# Altium integrated library Lattice MachXO.IntLib: 790 symbols (part 46 of 50)
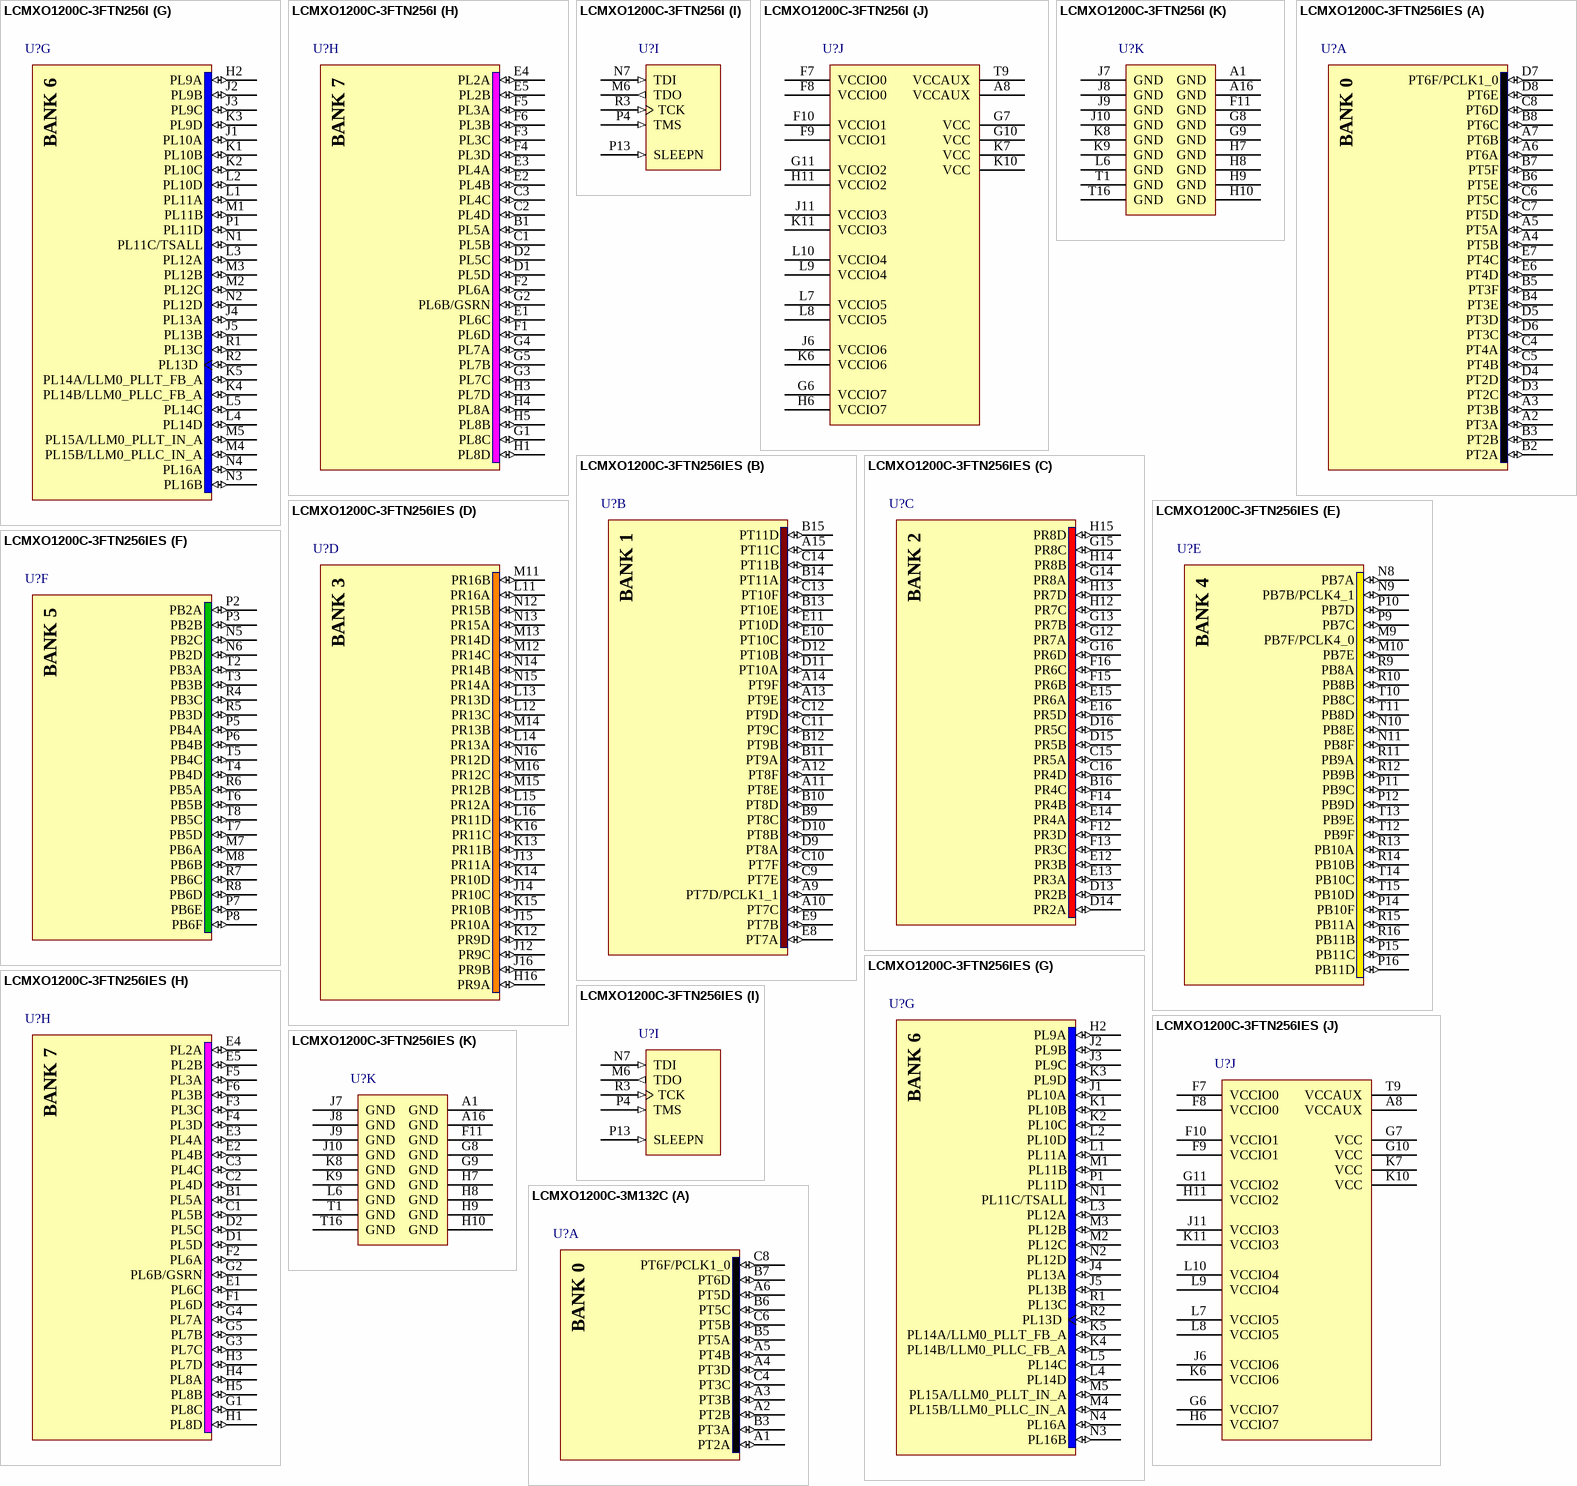
[diagram p485: symbols LCMXO1200C-3FTN256I to LCMXO1200C-3M132C]

## LCMXO1200C-3FTN256IES
designator U?
MachXO 1200 Crossover PLD, 1.8V/2.5V/3.3V, 211 User I/Os, 256-Pins ftBGA, Speed Grade-3, Industrial Grade, Pb-Free, Engineering Sample; Published: 31-Jul-2006; DatasheetVersion: ver2.1, May-2006; PackageVersion: pkg_33, Apr-2006; PackageReference: ftBGA256; Publisher: Altium Limited; PackageDescription: 256-Ball Fine Thin Ball Grid Array (ftBGA256); ComponentLink1Description: Manufacturer Link; ComponentLink1URL: http://www.latticesemi.com/products/cpld/machXO/index.cfm; ComponentLink2Description: Datasheet; ComponentLink2URL: http://www.latticesemi.com/lit/docs/datasheets/cpld/machxo.pdf
footprint ftBGA256 (BGA, 256-Leads, Body 17x17mm, Pitch 1mm)
3D model MachXO1200-ftBGA256 (256-Ball Fine Thin Ball Grid Array (ftBGA256))
signal-integrity model LCMXO1200C_FT256 (MachXO)
part A pins: A2 PT3A (io), A3 PT3B (io), A4 PT5B (io), A5 PT5A (io), A6 PT6A (io), A7 PT6B (io), B2 PT2A (io), B3 PT2B (io), B4 PT3E (io), B5 PT3F (io), B6 PT5E (io), B7 PT5F (io), B8 PT6C (io), C4 PT4A (io), C5 PT4B (io), C6 PT5C (io), C7 PT5D (io), C8 PT6D (io), D3 PT2C (io), D4 PT2D (io), D5 PT3D (io), D6 PT3C (io), D7 PT6F/PCLK1_0 (io), D8 PT6E (io), E6 PT4D (io), E7 PT4C (io)
part B pins: A9 PT7D/PCLK1_1 (io), A10 PT7C (io), A11 PT8E (io), A12 PT8F (io), A13 PT9E (io), A14 PT9F (io), A15 PT11C (io), B9 PT8C (io), B10 PT8D (io), B11 PT9A (io), B12 PT9B (io), B13 PT10E (io), B14 PT11A (io), B15 PT11D (io), C9 PT7E (io), C10 PT7F (io), C11 PT9C (io), C12 PT9D (io), C13 PT10F (io), C14 PT11B (io), D9 PT8A (io), D10 PT8B (io), D11 PT10A (io), D12 PT10B (io), E8 PT7A (io), E9 PT7B (io), E10 PT10C (io), E11 PT10D (io)
part C pins: B16 PR4C (io), C15 PR5A (io), C16 PR4D (io), D13 PR2B (io), D14 PR2A (io), D15 PR5B (io), D16 PR5C (io), E12 PR3B (io), E13 PR3A (io), E14 PR4A (io), E15 PR6A (io), E16 PR5D (io), F12 PR3D (io), F13 PR3C (io), F14 PR4B (io), F15 PR6B (io), F16 PR6C (io), G12 PR7A (io), G13 PR7B (io), G14 PR8A (io), G15 PR8C (io), G16 PR6D (io), H12 PR7C (io), H13 PR7D (io), H14 PR8B (io), H15 PR8D (io)
part D pins: H16 PR9A (io), J12 PR9C (io), J13 PR11A (io), J14 PR10C (io), J15 PR10A (io), J16 PR9B (io), K12 PR9D (io), K13 PR11B (io), K14 PR10D (io), K15 PR10B (io), K16 PR11C (io), L11 PR16A (io), L12 PR13C (io), L13 PR13D (io), L14 PR13A (io), L15 PR12A (io), L16 PR11D (io), M11 PR16B (io), M12 PR14C (io), M13 PR14D (io), M14 PR13B (io), M15 PR12B (io), M16 PR12C (io), N12 PR15B (io), N13 PR15A (io), N14 PR14B (io), N15 PR14A (io), N16 PR12D (io)
part E pins: M9 PB7F/PCLK4_0 (io), M10 PB7E (io), N8 PB7A (io), N9 PB7B/PCLK4_1 (io), N10 PB8E (io), N11 PB8F (io), P9 PB7C (io), P10 PB7D (io), P11 PB9C (io), P12 PB9D (io), P14 PB10F (io), P15 PB11C (io), P16 PB11D (io), R9 PB8A (io), R10 PB8B (io), R11 PB9A (io), R12 PB9B (io), R13 PB10A (io), R14 PB10B (io), R15 PB11A (io), R16 PB11B (io), T10 PB8C (io), T11 PB8D (io), T12 PB9F (io), T13 PB9E (io), T14 PB10C (io), T15 PB10D (io)
part F pins: M7 PB6A (io), M8 PB6B (io), N5 PB2C (io), N6 PB2D (io), P2 PB2A (io), P3 PB2B (io), P5 PB4A (io), P6 PB4B (io), P7 PB6E (io), P8 PB6F (io), R4 PB3C (io), R5 PB3D (io), R6 PB5A (io), R7 PB6C (io), R8 PB6D (io), T2 PB3A (io), T3 PB3B (io), T4 PB4D (io), T5 PB4C (io), T6 PB5B (io), T7 PB5D (io), T8 PB5C (io)
part G pins: H2 PL9A (io), J1 PL10A (io), J2 PL9B (io), J3 PL9C (io), J4 PL13A (io), J5 PL13B (io), K1 PL10B (io), K2 PL10C (io), K3 PL9D (io), K4 PL14B/LLM0_PLLC_FB_A (io), K5 PL14A/LLM0_PLLT_FB_A (io), L1 PL11A (io), L2 PL10D (io), L3 PL12A (io), L4 PL14D (io), L5 PL14C (io), M1 PL11B (io), M2 PL12C (io), M3 PL12B (io), M4 PL15B/LLM0_PLLC_IN_A (io), M5 PL15A/LLM0_PLLT_IN_A (io), N1 PL11C/TSALL (io), N2 PL12D (io), N3 PL16B (io), N4 PL16A (io), P1 PL11D (io), R1 PL13C (io), R2 PL13D (io)
part H pins: B1 PL5A (io), C1 PL5B (io), C2 PL4D (io), C3 PL4C (io), D1 PL5D (io), D2 PL5C (io), E1 PL6C (io), E2 PL4B (io), E3 PL4A (io), E4 PL2A (io), E5 PL2B (io), F1 PL6D (io), F2 PL6A (io), F3 PL3C (io), F4 PL3D (io), F5 PL3A (io), F6 PL3B (io), G1 PL8C (io), G2 PL6B/GSRN (io), G3 PL7C (io), G4 PL7A (io), G5 PL7B (io), H1 PL8D (io), H3 PL7D (io), H4 PL8A (io), H5 PL8B (io)
part I pins: M6 TDO (out) "Powered by VCCIO5", N7 TDI (in) "Powered by VCCIO5", P4 TMS (in) "Powered by VCCIO5", P13 SLEEPN (in) "Powered by VCCIO4", R3 TCK (in) "Powered by VCCIO5"
part J pins: A8 VCCAUX (power), F7 VCCIO0 (power), F8 VCCIO0 (power), F9 VCCIO1 (power), F10 VCCIO1 (power), G6 VCCIO7 (power), G7 VCC (power), G10 VCC (power), G11 VCCIO2 (power), H6 VCCIO7 (power), H11 VCCIO2 (power), J6 VCCIO6 (power), J11 VCCIO3 (power), K6 VCCIO6 (power), K7 VCC (power), K10 VCC (power), K11 VCCIO3 (power), L7 VCCIO5 (power), L8 VCCIO5 (power), L9 VCCIO4 (power), L10 VCCIO4 (power), T9 VCCAUX (power)
part K pins: A1 GND (power), A16 GND (power), F11 GND (power), G8 GND (power), G9 GND (power), H7 GND (power), H8 GND (power), H9 GND (power), H10 GND (power), J7 GND (power), J8 GND (power), J9 GND (power), J10 GND (power), K8 GND (power), K9 GND (power), L6 GND (power), T1 GND (power), T16 GND (power)
part A text: BANK 0
part B text: BANK 1
part C text: BANK 2
part D text: BANK 3
part E text: BANK 4
part F text: BANK 5
part G text: BANK 6
part H text: BANK 7

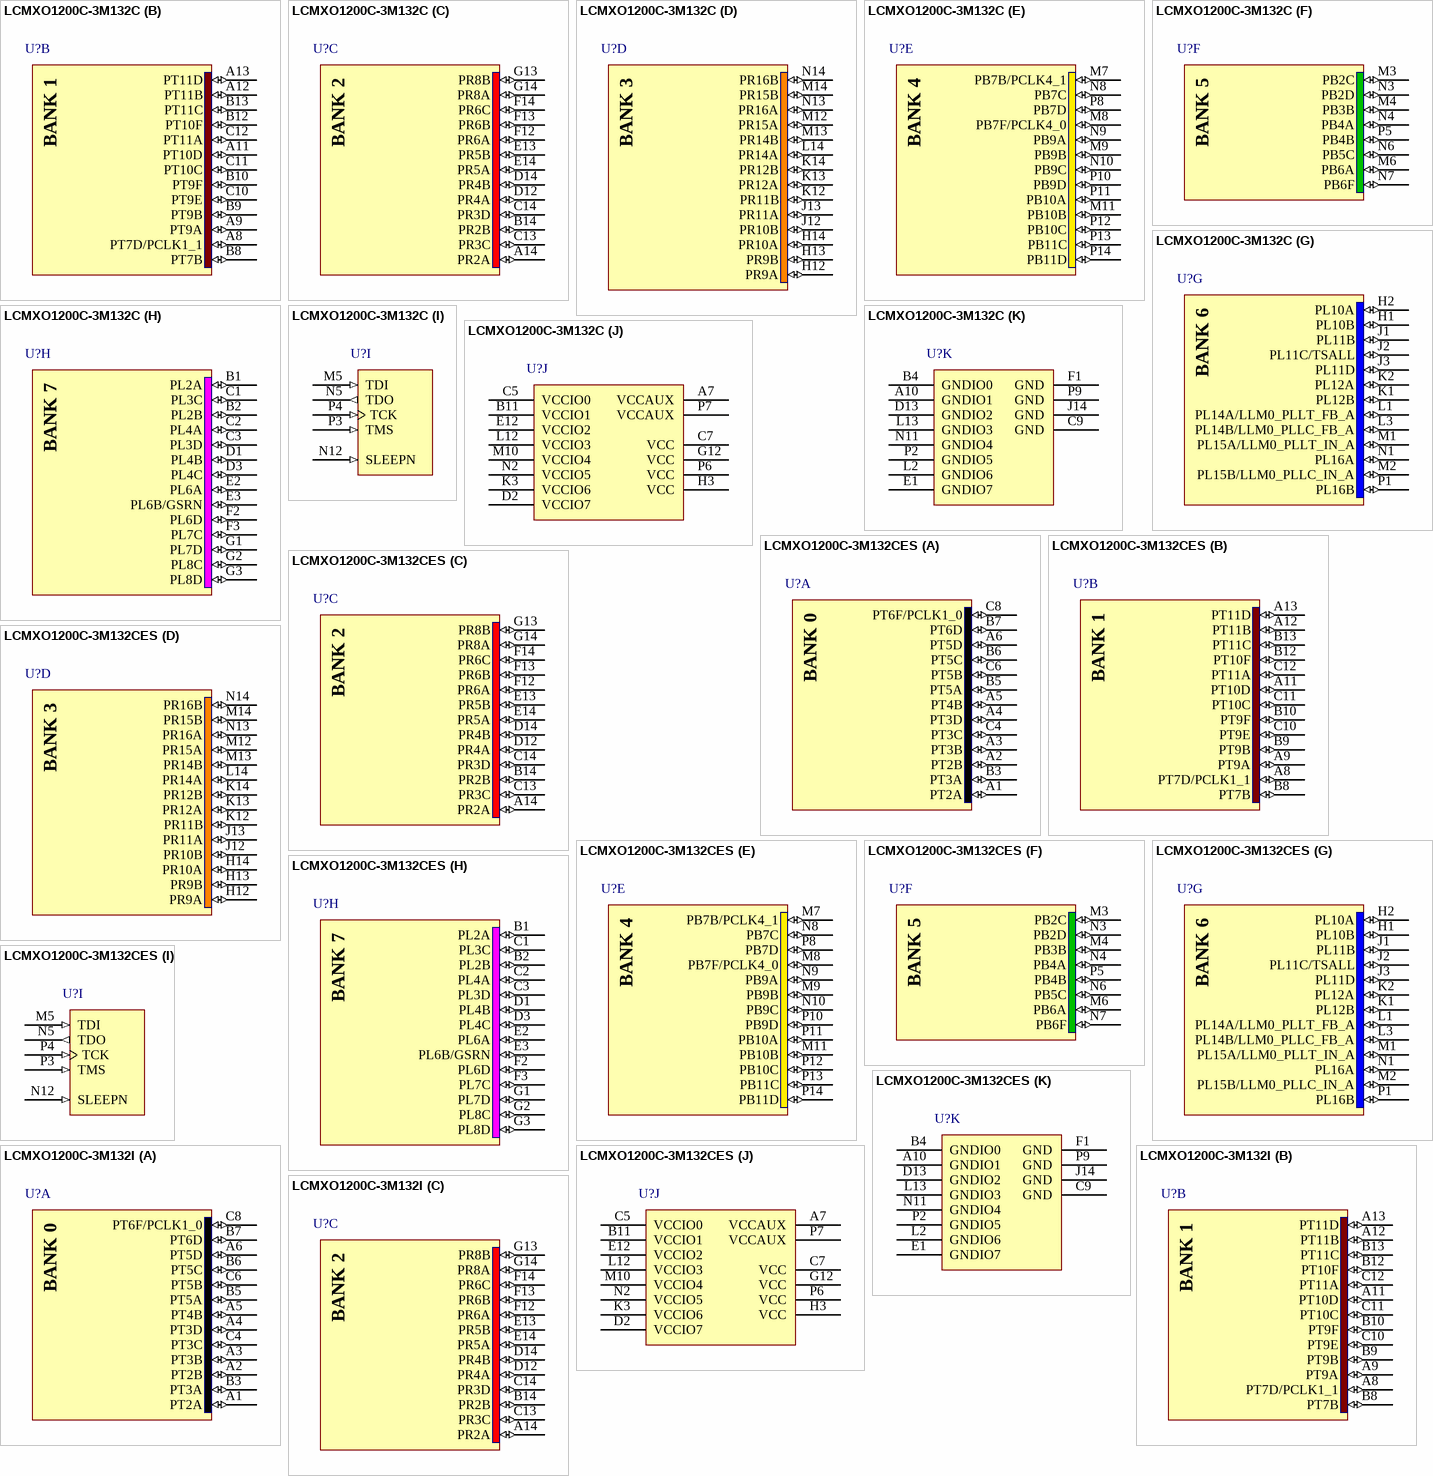
[diagram p144: symbols LCMXO1200C-3M132C to LCMXO1200C-3M132I]